# Altium schematic symbol library 电源IC.SchLib: 15 symbols
Pins are listed as number, name and electrical type; pins without a type are passive.

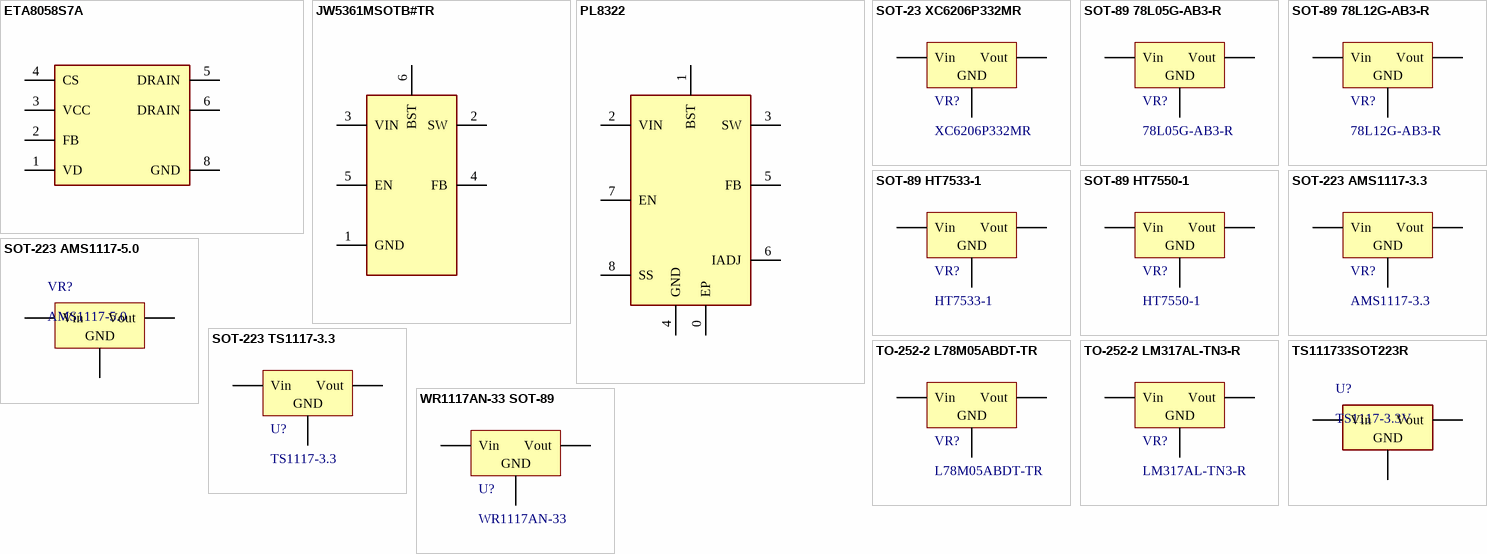
[diagram p0: symbols ETA8058S7A to WR1117AN-33 SOT-89]

## ETA8058S7A
designator U?
AC DC Level 6 Energy 15W  12V 1.5A; 厂家: ETA; 金蝶料号: 010113020005; 工作温度: -40~105℃; 插件/贴片: 贴片; 器件状态: 在用; 厂家型号: ETA8058S7A; 值: ETA8058S7A
footprint SOP-7_150mil
pins: 1 VD, 2 FB, 3 VCC, 4 CS, 5 DRAIN, 6 DRAIN, 8 GND

## JW5361MSOTB#TR
designator U?
DCDC开关电源; 厂家: JOULWATT; 金蝶料号: 010113030006; 工作温度: -65ºC to +150ºC; 插件/贴片: 贴片; 器件状态: 启用; 厂家型号: JW5361MSOTB#TR; 值: JW5361MSOTB#TR; ComponentLink1Description: New link; ComponentLink1URL: *
footprint SOT-23-6
pins: 1 GND, 2 SW, 3 VIN, 4 FB, 5 EN, 6 BST

## PL8322
designator U?
DCDC开关电源; 厂家: POWLICON(宝砾微); 金蝶料号: 010113030007; 工作温度: -40~+125℃; 插件/贴片: 贴片; 器件状态: 启用; 厂家型号: PL8322; 值: PL8322; ComponentLink1Description: New link; ComponentLink1URL: *
footprint SOP-8_EP_150mil
pins: 0 EP, 1 BST, 2 VIN, 3 SW, 4 GND, 5 FB, 6 IADJ, 7 EN, 8 SS

## SOT-23 XC6206P332MR
designator VR?, comment XC6206P332MR
低压差线性稳压(LDO); ComponentLink1Description: 供应商链接; ComponentLink1URL: http://www.szlcsc.com/product/details_5896.html; Package: SOT-23; Supplier: LC; SuppliersPartNumber: C5446
footprint SOT-23-3L (http://www.aosmd.com/res/packaging_information/SOT-23-3L.pdf)
pins: 1 GND, 2 Vout, 3 Vin

## SOT-89 78L05G-AB3-R
designator VR?, comment 78L05G-AB3-R
低压差线性稳压(LDO); ComponentLink1Description: 供应商链接; ComponentLink1URL: http://www.szlcsc.com/product/details_72235.html; Package: SOT-89; Supplier: LC; SuppliersPartNumber: C71136
footprint SOT-89(SOT-89-3)
pins: 1 Vout, 2 GND, 3 Vin

## SOT-89 78L12G-AB3-R
designator VR?, comment 78L12G-AB3-R
低压差线性稳压(LDO); ComponentLink1Description: 供应商链接; ComponentLink1URL: http://www.szlcsc.com/product/details_76626.html; Package: SOT-89; Supplier: LC; SuppliersPartNumber: C75501
footprint SOT-89(SOT-89-3)
pins: 1 Vout, 2 GND, 3 Vin

## SOT-89 HT7533-1
designator VR?, comment HT7533-1
低压差线性稳压(LDO); ComponentLink1Description: 供应商链接; ComponentLink1URL: http://www.szlcsc.com/product/details_14949.html; Package: SOT-89; Supplier: LC; SuppliersPartNumber: C14289
footprint SOT-89(SOT-89-3)
pins: 1 GND, 2 Vin, 3 Vout

## SOT-89 HT7550-1
designator VR?, comment HT7550-1
低压差线性稳压(LDO); ComponentLink1Description: 供应商链接; ComponentLink1URL: http://www.szlcsc.com/product/details_16788.html; Package: SOT-89; Supplier: LC; SuppliersPartNumber: C16106
footprint SOT-89(SOT-89-3)
pins: 1 GND, 2 Vin, 3 Vout

## SOT-223 AMS1117-3.3
designator VR?, comment AMS1117-3.3
低压差线性稳压(LDO); ComponentLink1Description: 供应商链接; ComponentLink1URL: http://www.szlcsc.com/product/details_6652.html; Package: SOT-223; Supplier: LC; SuppliersPartNumber: C6186
footprint SOT-223
pins: 1 GND, 2 Vout, 3 Vin

## SOT-223 AMS1117-5.0
designator VR?, comment AMS1117-5.0
低压差线性稳压(LDO); ComponentLink1Description: 供应商链接; ComponentLink1URL: http://www.szlcsc.com/product/details_6653.html; Package: SOT-223; Supplier: LC; SuppliersPartNumber: C6187
footprint SOT-223
pins: 1 GND, 2 Vout, 3 Vin

## SOT-223 TS1117-3.3
designator U?, comment TS1117-3.3
低压差线性稳压(LDO); ComponentLink1Description: 供应商链接; ComponentLink1URL: http://www.szlcsc.com/product/details_6652.html; Package: SOT-223; Supplier: LC; SuppliersPartNumber: C6186
footprint SOT-223
pins: 1 GND, 2 Vout, 3 Vin

## TO-252-2 L78M05ABDT-TR
designator VR?, comment L78M05ABDT-TR
低压差线性稳压(LDO); ComponentLink1Description: 供应商链接; ComponentLink1URL: http://www.szlcsc.com/product/details_59107.html; Package: TO-252-2; Supplier: LC; SuppliersPartNumber: C58069
footprint TO-252-2-180 (180度编带包装)
pins: 1 Vin, 2 GND, 3 Vout

## TO-252-2 LM317AL-TN3-R
designator VR?, comment LM317AL-TN3-R
低压差线性稳压(LDO); ComponentLink1Description: 供应商链接; ComponentLink1URL: http://www.szlcsc.com/product/details_76635.html; Package: TO-252-2; Supplier: LC; SuppliersPartNumber: C75510
footprint TO-252-2-180 (180度编带包装)
pins: 1 GND, 2 Vout, 3 Vin

## TS111733SOT223R
designator U?, comment TS1117-3.3V
低压差线性稳压(LDO)  3.3V; 厂家: TS; 厂家型号: TS111733SOT223R; 金蝶料号: 010113010001; 插件/贴片: 贴片; 器件状态: 启用; 工作温度: *; 值: TS1117-3.3V
footprint SOT-223
pins: 1 GND, 2 Vout, 3 Vin

## WR1117AN-33 SOT-89
designator U?, comment WR1117AN-33
低压差线性稳压(LDO); 金蝶料号: 010113010005; 工作温度: -40~125; 插件/贴片: 贴片; 器件状态: 启用; ComponentLink1Description: 供应商链接; ComponentLink1URL: http://www.szlcsc.com/product/details_6652.html; 厂家型号: WR1117AN-33; 值: WR1117AN-33
footprint SOT-89(SOT-89-3)
pins: 1 GND, 2 Vout, 3 Vin